# EAGLE library part PINGUINOBASE (library PinguinoBase)
Pinguino Base: Placa de desarrollo para Pinguino pic
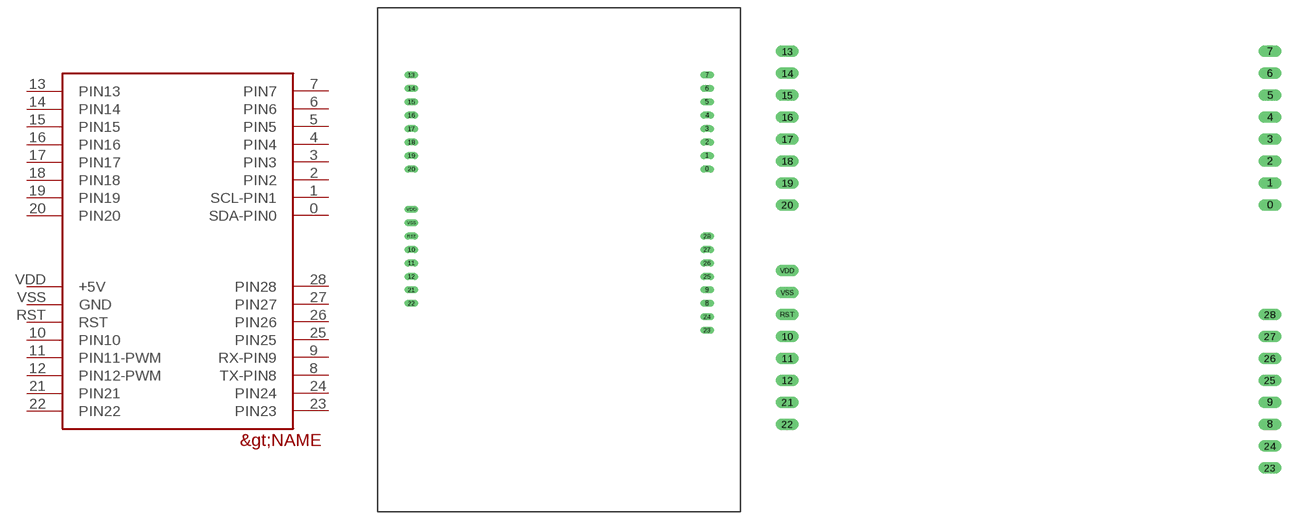
[diagram p0: symbol with the pads of PINGUINOBASE; footprints PINGUINOBASE, PINGUINOBASE-MIN]

Designator prefix -

## PINGUINOBASEORIGINAL  [PINGUINOBASE]
0  SDA-PIN0
1  SCL-PIN1
2  PIN2
3  PIN3
4  PIN4
5  PIN5
6  PIN6
7  PIN7
8  TX-PIN8
9  RX-PIN9
10  PIN10
11  PIN11-PWM
12  PIN12-PWM
13  PIN13
14  PIN14
15  PIN15
16  PIN16
17  PIN17
18  PIN18
19  PIN19
20  PIN20
21  PIN21
22  PIN22
23  PIN23
24  PIN24
25  PIN25
26  PIN26
27  PIN27
28  PIN28
RST  RST  in
VDD  +5V  in
VSS  GND  in

## PINGUINOBASENO-BORDER  [PINGUINOBASE-MIN]
Pads as for PINGUINOBASE

## Footprint PINGUINOBASE (pad centres in mm)
PinguinoBase
drill 0.8 long: 0 62.23,64.77; 1 62.23,67.31; 2 62.23,69.85; 3 62.23,72.39; 4 62.23,74.93; 5 62.23,77.47; 6 62.23,80.01; 7 62.23,82.55; 8 62.23,39.37; 9 62.23,41.91; 10 6.35,49.53; 11 6.35,46.99; 12 6.35,44.45; 13 6.35,82.55; 14 6.35,80.01; 15 6.35,77.47; 16 6.35,74.93; 17 6.35,72.39; 18 6.35,69.85; 19 6.35,67.31; 20 6.35,64.77; 21 6.35,41.91; 22 6.35,39.37; 23 62.23,34.29; 24 62.23,36.83; 25 62.23,44.45; 26 62.23,46.99; 27 62.23,49.53; 28 62.23,52.07; RST 6.35,52.07; VDD 6.35,57.15; VSS 6.35,54.61

## Footprint PINGUINOBASE-MIN (pad centres in mm)
drill 0.8 long: 0 62.23,34.29; 1 62.23,36.83; 2 62.23,39.37; 3 62.23,41.91; 4 62.23,44.45; 5 62.23,46.99; 6 62.23,49.53; 7 62.23,52.07; 8 62.23,8.89; 9 62.23,11.43; 10 6.35,19.05; 11 6.35,16.51; 12 6.35,13.97; 13 6.35,52.07; 14 6.35,49.53; 15 6.35,46.99; 16 6.35,44.45; 17 6.35,41.91; 18 6.35,39.37; 19 6.35,36.83; 20 6.35,34.29; 21 6.35,11.43; 22 6.35,8.89; 23 62.23,3.81; 24 62.23,6.35; 25 62.23,13.97; 26 62.23,16.51; 27 62.23,19.05; 28 62.23,21.59; RST 6.35,21.59; VDD 6.35,26.67; VSS 6.35,24.13